# Altium footprint library Button_Switch_SMD.PcbLib: 169 footprints (part 7 of 12)
Each footprint in its own frame and in the unit in brackets; x right, y up, seen from the top. Pads: shape width x height; smd on the part's side, far side on the other; paste and mask are expansions set on the pad; w line width, h text height; cw(c..) or ccw(c..) is an arc to the next point about the centre after c.
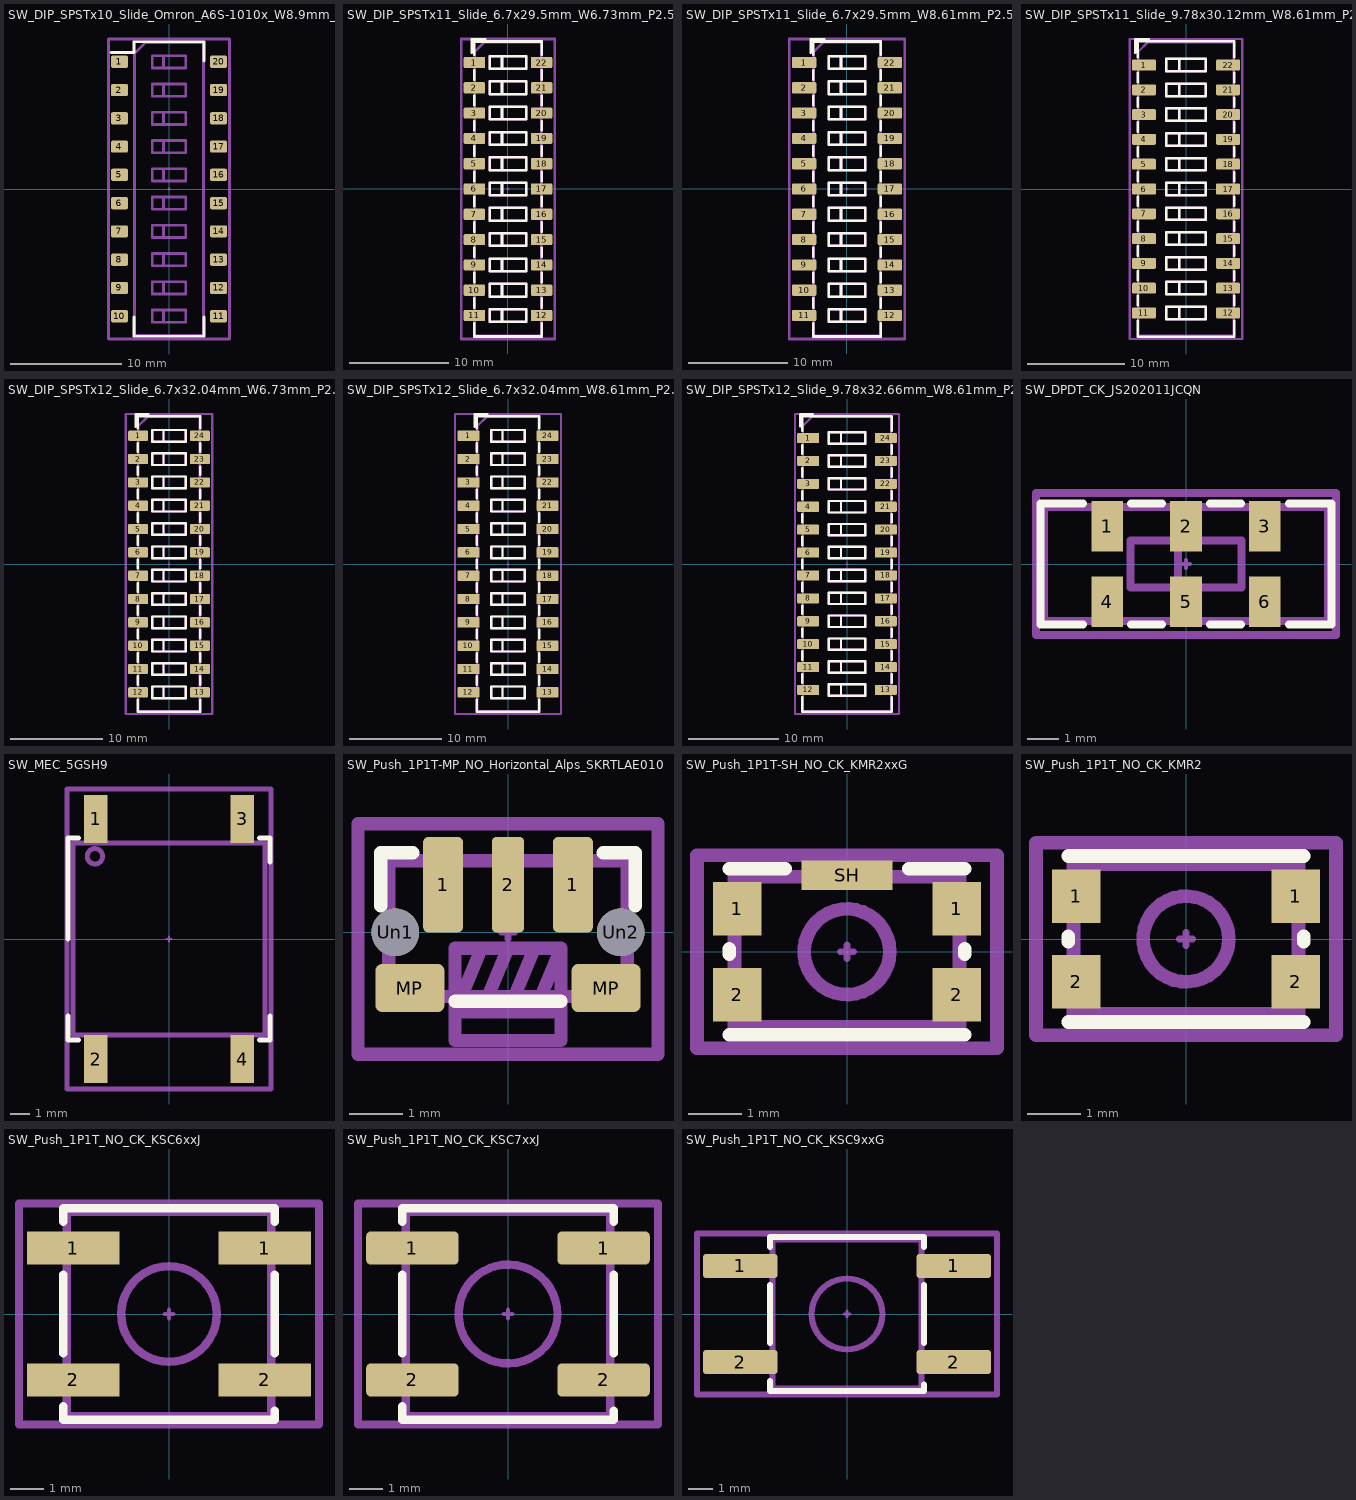
[diagram p6: the footprints below, top view; thin cyan lines are the x and y axes]

## SW_DIP_SPSTx10_Slide_Omron_A6S-1010x_W8.9mm_P2.54mm [mm] "SW_DIP_SPSTx10_Slide_Omron_A6S-1010x_W8.9mm_P2.54mm"
pads (20):
  rrect23% 1.5x1.1 smd: 1(-4.45,11.43) 2(-4.45,8.89) 3(-4.45,6.35) 4(-4.45,3.81) 5(-4.45,1.27) 6(-4.45,-1.27) 7(-4.45,-3.81) 8(-4.45,-6.35) 9(-4.45,-8.89) 10(-4.45,-11.43) 11(4.45,-11.43) 12(4.45,-8.89) 13(4.45,-6.35) 14(4.45,-3.81) 15(4.45,-1.27) 16(4.45,1.27) 17(4.45,3.81) 18(4.45,6.35) 19(4.45,8.89) 20(4.45,11.43)
F.SilkS:
  lines w0.254: -5.2,12.28 -3.16,12.28 -3.16,13.23 3.16,13.23 3.16,11.49 ; -3.16,-11.49 -3.16,-13.23 3.16,-13.23 3.16,-11.49
Top Component Center:
  lines w0.127: -0.127,0 0.127,0 ; 0,-0.127 0,0.127
Top Assembly:
  lines w0.254: -1.5,-11.98 -1.5,-10.88 ; -1.5,-11.98 -0.5,-11.98 ; -1.5,-11.98 -1.5,-10.88 ; -1.5,-11.98 1.5,-11.98 1.5,-10.88 -1.5,-10.88 ; -1.5,-10.88 -0.5,-10.88 ; -1.5,-9.44 -1.5,-8.34 ; -1.5,-9.44 -0.5,-9.44 ; -1.5,-9.44 -1.5,-8.34 ; -1.5,-9.44 1.5,-9.44 1.5,-8.34 -1.5,-8.34 ; -1.5,-8.34 -0.5,-8.34 ; -1.5,-6.9 -1.5,-5.8 ; -1.5,-6.9 -0.5,-6.9 ; -1.5,-6.9 -1.5,-5.8 ; -1.5,-6.9 1.5,-6.9 1.5,-5.8 -1.5,-5.8 ; -1.5,-5.8 -0.5,-5.8 ; -1.5,-4.36 -1.5,-3.26 ; -1.5,-4.36 -0.5,-4.36 ; -1.5,-4.36 -1.5,-3.26 ; -1.5,-4.36 1.5,-4.36 1.5,-3.26 -1.5,-3.26 ; -1.5,-3.26 -0.5,-3.26 ; -1.5,-1.82 -1.5,-0.72 ; -1.5,-1.82 -0.5,-1.82 ; -1.5,-1.82 -1.5,-0.72 ; -1.5,-1.82 1.5,-1.82 1.5,-0.72 -1.5,-0.72 ; -1.5,-0.72 -0.5,-0.72 ; -1.5,0.72 -1.5,1.82 ; -1.5,0.72 -0.5,0.72 ; -1.5,0.72 -1.5,1.82 ; -1.5,0.72 1.5,0.72 1.5,1.82 -1.5,1.82 ; -1.5,1.82 -0.5,1.82 ; -1.5,3.26 -1.5,4.36 ; -1.5,3.26 -0.5,3.26 ; -1.5,3.26 -1.5,4.36 ; -1.5,3.26 1.5,3.26 1.5,4.36 -1.5,4.36 ; -1.5,4.36 -0.5,4.36 ; -1.5,5.8 -1.5,6.9 ; -1.5,5.8 -0.5,5.8 ; -1.5,5.8 -1.5,6.9 ; -1.5,5.8 1.5,5.8 1.5,6.9 -1.5,6.9 ; -1.5,6.9 -0.5,6.9 ; -1.5,8.34 -1.5,9.44 ; -1.5,8.34 -0.5,8.34 ; -1.5,8.34 -1.5,9.44 ; -1.5,8.34 1.5,8.34 1.5,9.44 -1.5,9.44 ; -1.5,9.44 -0.5,9.44 ; -1.5,10.88 -1.5,11.98 ; -1.5,10.88 -0.5,10.88 ; -1.5,10.88 -1.5,11.98 ; -1.5,10.88 1.5,10.88 1.5,11.98 -1.5,11.98 ; -1.5,11.98 -0.5,11.98 ; -0.5,-11.98 -0.5,-10.88 ; -0.5,-11.98 -0.5,-10.88 ; -0.5,-9.44 -0.5,-8.34 ; -0.5,-9.44 -0.5,-8.34 ; -0.5,-6.9 -0.5,-5.8 ; -0.5,-6.9 -0.5,-5.8 ; -0.5,-4.36 -0.5,-3.26 ; -0.5,-4.36 -0.5,-3.26 ; -0.5,-1.82 -0.5,-0.72 ; -0.5,-1.82 -0.5,-0.72 ; -0.5,0.72 -0.5,1.82 ; -0.5,0.72 -0.5,1.82 ; -0.5,3.26 -0.5,4.36 ; -0.5,3.26 -0.5,4.36 ; -0.5,5.8 -0.5,6.9 ; -0.5,5.8 -0.5,6.9 ; -0.5,8.34 -0.5,9.44 ; -0.5,8.34 -0.5,9.44 ; -0.5,10.88 -0.5,11.98 ; -0.5,10.88 -0.5,11.98 ; -3.1,-13.17 -3.1,12.17 -2.1,13.17 3.1,13.17 3.1,-13.17 -3.1,-13.17
  text "on" at -0.59,12.188 h0.8
Top Courtyard:
  lines w0.254: -5.45,-13.48 -5.45,13.48 5.45,13.48 5.45,-13.48 -5.45,-13.48
Top Designator:
  text ".Designator" at -3.432,-0.345 h1.52
3D body "SW_DIP_SPSTx10_Slide_Omron_A6S-1010x_W8.9mm_P2.54mm.step": height 3.1, standoff 0.03, extent -4.9,-13.17 4.9,13.17

## SW_DIP_SPSTx11_Slide_6.7x29.5mm_W6.73mm_P2.54mm_LowProfile_JPin [mm] "SW_DIP_SPSTx11_Slide_6.7x29.5mm_W6.73mm_P2.54mm_LowProfile_JPin"
pads (22):
  rrect22% 2.16x1.12 smd: 1(-3.365,12.7) 2(-3.365,10.16) 3(-3.365,7.62) 4(-3.365,5.08) 5(-3.365,2.54) 6(-3.365,0) 7(-3.365,-2.54) 8(-3.365,-5.08) 9(-3.365,-7.62) 10(-3.365,-10.16) 11(-3.365,-12.7) 12(3.365,-12.7) 13(3.365,-10.16) 14(3.365,-7.62) 15(3.365,-5.08) 16(3.365,-2.54) 17(3.365,0) 18(3.365,2.54) 19(3.365,5.08) 20(3.365,7.62) 21(3.365,10.16) 22(3.365,12.7)
F.SilkS:
  lines w0.254: -3.65,13.667 -3.65,15.05 -2.267,15.05 ; -3.41,-13.5 -3.41,-14.81 3.41,-14.81 3.41,-13.5 ; -3.41,-11.9 -3.41,-10.96 ; -3.41,-9.36 -3.41,-8.42 ; -3.41,-6.82 -3.41,-5.88 ; -3.41,-4.28 -3.41,-3.34 ; -3.41,-1.74 -3.41,-0.8 ; -3.41,0.8 -3.41,1.74 ; -3.41,3.34 -3.41,4.28 ; -3.41,5.88 -3.41,6.82 ; -3.41,8.42 -3.41,9.36 ; -3.41,10.96 -3.41,11.9 ; -3.41,13.5 -3.41,14.81 3.41,14.81 3.41,13.5 ; 3.41,-11.9 3.41,-10.96 ; 3.41,-9.36 3.41,-8.42 ; 3.41,-6.82 3.41,-5.88 ; 3.41,-4.28 3.41,-3.34 ; 3.41,-1.74 3.41,-0.8 ; 3.41,0.8 3.41,1.74 ; 3.41,3.34 3.41,4.28 ; 3.41,5.88 3.41,6.82 ; 3.41,8.42 3.41,9.36 ; 3.41,10.96 3.41,11.9 ; -1.81,-13.335 -1.81,-12.065 ; -1.81,-13.335 -0.603,-13.335 ; -1.81,-13.335 -1.81,-12.065 ; -1.81,-13.335 1.81,-13.335 1.81,-12.065 -1.81,-12.065 ; -1.81,-12.065 -0.603,-12.065 ; -1.81,-10.795 -1.81,-9.525 ; -1.81,-10.795 -0.603,-10.795 ; -1.81,-10.795 -1.81,-9.525 ; -1.81,-10.795 1.81,-10.795 1.81,-9.525 -1.81,-9.525 ; -1.81,-9.525 -0.603,-9.525 ; -1.81,-8.255 -1.81,-6.985 ; -1.81,-8.255 -0.603,-8.255 ; -1.81,-8.255 -1.81,-6.985 ; -1.81,-8.255 1.81,-8.255 1.81,-6.985 -1.81,-6.985 ; -1.81,-6.985 -0.603,-6.985 ; -1.81,-5.715 -1.81,-4.445 ; -1.81,-5.715 -0.603,-5.715 ; -1.81,-5.715 -1.81,-4.445 ; -1.81,-5.715 1.81,-5.715 1.81,-4.445 -1.81,-4.445 ; -1.81,-4.445 -0.603,-4.445 ; -1.81,-3.175 -1.81,-1.905 ; -1.81,-3.175 -0.603,-3.175 ; -1.81,-3.175 -1.81,-1.905 ; -1.81,-3.175 1.81,-3.175 1.81,-1.905 -1.81,-1.905 ; -1.81,-1.905 -0.603,-1.905 ; -1.81,-0.635 -1.81,0.635 ; -1.81,-0.635 -0.603,-0.635 ; -1.81,-0.635 -1.81,0.635 ; -1.81,-0.635 1.81,-0.635 1.81,0.635 -1.81,0.635 ; -1.81,0.635 -0.603,0.635 ; -1.81,1.905 -1.81,3.175 ; -1.81,1.905 -0.603,1.905 ; -1.81,1.905 -1.81,3.175 ; -1.81,1.905 1.81,1.905 1.81,3.175 -1.81,3.175 ; -1.81,3.175 -0.603,3.175 ; -1.81,4.445 -1.81,5.715 ; -1.81,4.445 -0.603,4.445 ; -1.81,4.445 -1.81,5.715 ; -1.81,4.445 1.81,4.445 1.81,5.715 -1.81,5.715 ; -1.81,5.715 -0.603,5.715 ; -1.81,6.985 -1.81,8.255 ; -1.81,6.985 -0.603,6.985 ; -1.81,6.985 -1.81,8.255 ; -1.81,6.985 1.81,6.985 1.81,8.255 -1.81,8.255 ; -1.81,8.255 -0.603,8.255 ; -1.81,9.525 -1.81,10.795 ; -1.81,9.525 -0.603,9.525 ; -1.81,9.525 -1.81,10.795 ; -1.81,9.525 1.81,9.525 1.81,10.795 -1.81,10.795 ; -1.81,10.795 -0.603,10.795 ; -1.81,12.065 -1.81,13.335 ; -1.81,12.065 -0.603,12.065 ; -1.81,12.065 -1.81,13.335 ; -1.81,12.065 1.81,12.065 1.81,13.335 -1.81,13.335 ; -1.81,13.335 -0.603,13.335 ; -0.603,-13.335 -0.603,-12.065 ; -0.603,-13.335 -0.603,-12.065 ; -0.603,-10.795 -0.603,-9.525 ; -0.603,-10.795 -0.603,-9.525 ; -0.603,-8.255 -0.603,-6.985 ; -0.603,-8.255 -0.603,-6.985 ; -0.603,-5.715 -0.603,-4.445 ; -0.603,-5.715 -0.603,-4.445 ; -0.603,-3.175 -0.603,-1.905 ; -0.603,-3.175 -0.603,-1.905 ; -0.603,-0.635 -0.603,0.635 ; -0.603,-0.635 -0.603,0.635 ; -0.603,1.905 -0.603,3.175 ; -0.603,1.905 -0.603,3.175 ; -0.603,4.445 -0.603,5.715 ; -0.603,4.445 -0.603,5.715 ; -0.603,6.985 -0.603,8.255 ; -0.603,6.985 -0.603,8.255 ; -0.603,9.525 -0.603,10.795 ; -0.603,9.525 -0.603,10.795 ; -0.603,12.065 -0.603,13.335 ; -0.603,12.065 -0.603,13.335
Top Component Center:
  lines w0.127: -0.127,0 0.127,0 ; 0,-0.127 0,0.127
Top Assembly:
  lines w0.254: -1.81,-13.335 -1.81,-12.065 ; -1.81,-13.335 -0.603,-13.335 ; -1.81,-13.335 -1.81,-12.065 ; -1.81,-13.335 1.81,-13.335 1.81,-12.065 -1.81,-12.065 ; -1.81,-12.065 -0.603,-12.065 ; -1.81,-10.795 -1.81,-9.525 ; -1.81,-10.795 -0.603,-10.795 ; -1.81,-10.795 -1.81,-9.525 ; -1.81,-10.795 1.81,-10.795 1.81,-9.525 -1.81,-9.525 ; -1.81,-9.525 -0.603,-9.525 ; -1.81,-8.255 -1.81,-6.985 ; -1.81,-8.255 -0.603,-8.255 ; -1.81,-8.255 -1.81,-6.985 ; -1.81,-8.255 1.81,-8.255 1.81,-6.985 -1.81,-6.985 ; -1.81,-6.985 -0.603,-6.985 ; -1.81,-5.715 -1.81,-4.445 ; -1.81,-5.715 -0.603,-5.715 ; -1.81,-5.715 -1.81,-4.445 ; -1.81,-5.715 1.81,-5.715 1.81,-4.445 -1.81,-4.445 ; -1.81,-4.445 -0.603,-4.445 ; -1.81,-3.175 -1.81,-1.905 ; -1.81,-3.175 -0.603,-3.175 ; -1.81,-3.175 -1.81,-1.905 ; -1.81,-3.175 1.81,-3.175 1.81,-1.905 -1.81,-1.905 ; -1.81,-1.905 -0.603,-1.905 ; -1.81,-0.635 -1.81,0.635 ; -1.81,-0.635 -0.603,-0.635 ; -1.81,-0.635 -1.81,0.635 ; -1.81,-0.635 1.81,-0.635 1.81,0.635 -1.81,0.635 ; -1.81,0.635 -0.603,0.635 ; -1.81,1.905 -1.81,3.175 ; -1.81,1.905 -0.603,1.905 ; -1.81,1.905 -1.81,3.175 ; -1.81,1.905 1.81,1.905 1.81,3.175 -1.81,3.175 ; -1.81,3.175 -0.603,3.175 ; -1.81,4.445 -1.81,5.715 ; -1.81,4.445 -0.603,4.445 ; -1.81,4.445 -1.81,5.715 ; -1.81,4.445 1.81,4.445 1.81,5.715 -1.81,5.715 ; -1.81,5.715 -0.603,5.715 ; -1.81,6.985 -1.81,8.255 ; -1.81,6.985 -0.603,6.985 ; -1.81,6.985 -1.81,8.255 ; -1.81,6.985 1.81,6.985 1.81,8.255 -1.81,8.255 ; -1.81,8.255 -0.603,8.255 ; -1.81,9.525 -1.81,10.795 ; -1.81,9.525 -0.603,9.525 ; -1.81,9.525 -1.81,10.795 ; -1.81,9.525 1.81,9.525 1.81,10.795 -1.81,10.795 ; -1.81,10.795 -0.603,10.795 ; -1.81,12.065 -1.81,13.335 ; -1.81,12.065 -0.603,12.065 ; -1.81,12.065 -1.81,13.335 ; -1.81,12.065 1.81,12.065 1.81,13.335 -1.81,13.335 ; -1.81,13.335 -0.603,13.335 ; -0.603,-13.335 -0.603,-12.065 ; -0.603,-13.335 -0.603,-12.065 ; -0.603,-10.795 -0.603,-9.525 ; -0.603,-10.795 -0.603,-9.525 ; -0.603,-8.255 -0.603,-6.985 ; -0.603,-8.255 -0.603,-6.985 ; -0.603,-5.715 -0.603,-4.445 ; -0.603,-5.715 -0.603,-4.445 ; -0.603,-3.175 -0.603,-1.905 ; -0.603,-3.175 -0.603,-1.905 ; -0.603,-0.635 -0.603,0.635 ; -0.603,-0.635 -0.603,0.635 ; -0.603,1.905 -0.603,3.175 ; -0.603,1.905 -0.603,3.175 ; -0.603,4.445 -0.603,5.715 ; -0.603,4.445 -0.603,5.715 ; -0.603,6.985 -0.603,8.255 ; -0.603,6.985 -0.603,8.255 ; -0.603,9.525 -0.603,10.795 ; -0.603,9.525 -0.603,10.795 ; -0.603,12.065 -0.603,13.335 ; -0.603,12.065 -0.603,13.335 ; -3.35,-14.75 -3.35,13.75 -2.35,14.75 3.35,14.75 3.35,-14.75 -3.35,-14.75
  text "on" at 0.233,13.656 h0.8
Top Courtyard:
  lines w0.254: -4.7,-15.06 -4.7,15.06 4.7,15.06 4.7,-15.06 -4.7,-15.06
Top Designator:
  text ".Designator" at -3.432,0.925 h1.52
3D body "SW_DIP_SPSTx11_Slide_6.7x29.5mm_W6.73mm_P2.54mm_LowProfile_JPin.step": height 3.2, standoff -0.1, extent -3.45,-14.75 3.45,14.75

## SW_DIP_SPSTx11_Slide_6.7x29.5mm_W8.61mm_P2.54mm_LowProfile [mm] "SW_DIP_SPSTx11_Slide_6.7x29.5mm_W8.61mm_P2.54mm_LowProfile"
pads (22):
  rrect22% 2.44x1.12 smd: 1(-4.305,12.7) 2(-4.305,10.16) 3(-4.305,7.62) 4(-4.305,5.08) 5(-4.305,2.54) 6(-4.305,0) 7(-4.305,-2.54) 8(-4.305,-5.08) 9(-4.305,-7.62) 10(-4.305,-10.16) 11(-4.305,-12.7) 12(4.305,-12.7) 13(4.305,-10.16) 14(4.305,-7.62) 15(4.305,-5.08) 16(4.305,-2.54) 17(4.305,0) 18(4.305,2.54) 19(4.305,5.08) 20(4.305,7.62) 21(4.305,10.16) 22(4.305,12.7)
F.SilkS:
  lines w0.254: -3.65,13.667 -3.65,15.05 -2.267,15.05 ; -3.41,-13.5 -3.41,-14.81 3.41,-14.81 3.41,-13.5 ; -3.41,-11.9 -3.41,-10.96 ; -3.41,-9.36 -3.41,-8.42 ; -3.41,-6.82 -3.41,-5.88 ; -3.41,-4.28 -3.41,-3.34 ; -3.41,-1.74 -3.41,-0.8 ; -3.41,0.8 -3.41,1.74 ; -3.41,3.34 -3.41,4.28 ; -3.41,5.88 -3.41,6.82 ; -3.41,8.42 -3.41,9.36 ; -3.41,10.96 -3.41,11.9 ; -3.41,13.5 -3.41,14.81 3.41,14.81 3.41,13.5 ; 3.41,-11.9 3.41,-10.96 ; 3.41,-9.36 3.41,-8.42 ; 3.41,-6.82 3.41,-5.88 ; 3.41,-4.28 3.41,-3.34 ; 3.41,-1.74 3.41,-0.8 ; 3.41,0.8 3.41,1.74 ; 3.41,3.34 3.41,4.28 ; 3.41,5.88 3.41,6.82 ; 3.41,8.42 3.41,9.36 ; 3.41,10.96 3.41,11.9 ; -1.81,-13.335 -1.81,-12.065 ; -1.81,-13.335 -0.603,-13.335 ; -1.81,-13.335 -1.81,-12.065 ; -1.81,-13.335 1.81,-13.335 1.81,-12.065 -1.81,-12.065 ; -1.81,-12.065 -0.603,-12.065 ; -1.81,-10.795 -1.81,-9.525 ; -1.81,-10.795 -0.603,-10.795 ; -1.81,-10.795 -1.81,-9.525 ; -1.81,-10.795 1.81,-10.795 1.81,-9.525 -1.81,-9.525 ; -1.81,-9.525 -0.603,-9.525 ; -1.81,-8.255 -1.81,-6.985 ; -1.81,-8.255 -0.603,-8.255 ; -1.81,-8.255 -1.81,-6.985 ; -1.81,-8.255 1.81,-8.255 1.81,-6.985 -1.81,-6.985 ; -1.81,-6.985 -0.603,-6.985 ; -1.81,-5.715 -1.81,-4.445 ; -1.81,-5.715 -0.603,-5.715 ; -1.81,-5.715 -1.81,-4.445 ; -1.81,-5.715 1.81,-5.715 1.81,-4.445 -1.81,-4.445 ; -1.81,-4.445 -0.603,-4.445 ; -1.81,-3.175 -1.81,-1.905 ; -1.81,-3.175 -0.603,-3.175 ; -1.81,-3.175 -1.81,-1.905 ; -1.81,-3.175 1.81,-3.175 1.81,-1.905 -1.81,-1.905 ; -1.81,-1.905 -0.603,-1.905 ; -1.81,-0.635 -1.81,0.635 ; -1.81,-0.635 -0.603,-0.635 ; -1.81,-0.635 -1.81,0.635 ; -1.81,-0.635 1.81,-0.635 1.81,0.635 -1.81,0.635 ; -1.81,0.635 -0.603,0.635 ; -1.81,1.905 -1.81,3.175 ; -1.81,1.905 -0.603,1.905 ; -1.81,1.905 -1.81,3.175 ; -1.81,1.905 1.81,1.905 1.81,3.175 -1.81,3.175 ; -1.81,3.175 -0.603,3.175 ; -1.81,4.445 -1.81,5.715 ; -1.81,4.445 -0.603,4.445 ; -1.81,4.445 -1.81,5.715 ; -1.81,4.445 1.81,4.445 1.81,5.715 -1.81,5.715 ; -1.81,5.715 -0.603,5.715 ; -1.81,6.985 -1.81,8.255 ; -1.81,6.985 -0.603,6.985 ; -1.81,6.985 -1.81,8.255 ; -1.81,6.985 1.81,6.985 1.81,8.255 -1.81,8.255 ; -1.81,8.255 -0.603,8.255 ; -1.81,9.525 -1.81,10.795 ; -1.81,9.525 -0.603,9.525 ; -1.81,9.525 -1.81,10.795 ; -1.81,9.525 1.81,9.525 1.81,10.795 -1.81,10.795 ; -1.81,10.795 -0.603,10.795 ; -1.81,12.065 -1.81,13.335 ; -1.81,12.065 -0.603,12.065 ; -1.81,12.065 -1.81,13.335 ; -1.81,12.065 1.81,12.065 1.81,13.335 -1.81,13.335 ; -1.81,13.335 -0.603,13.335 ; -0.603,-13.335 -0.603,-12.065 ; -0.603,-13.335 -0.603,-12.065 ; -0.603,-10.795 -0.603,-9.525 ; -0.603,-10.795 -0.603,-9.525 ; -0.603,-8.255 -0.603,-6.985 ; -0.603,-8.255 -0.603,-6.985 ; -0.603,-5.715 -0.603,-4.445 ; -0.603,-5.715 -0.603,-4.445 ; -0.603,-3.175 -0.603,-1.905 ; -0.603,-3.175 -0.603,-1.905 ; -0.603,-0.635 -0.603,0.635 ; -0.603,-0.635 -0.603,0.635 ; -0.603,1.905 -0.603,3.175 ; -0.603,1.905 -0.603,3.175 ; -0.603,4.445 -0.603,5.715 ; -0.603,4.445 -0.603,5.715 ; -0.603,6.985 -0.603,8.255 ; -0.603,6.985 -0.603,8.255 ; -0.603,9.525 -0.603,10.795 ; -0.603,9.525 -0.603,10.795 ; -0.603,12.065 -0.603,13.335 ; -0.603,12.065 -0.603,13.335
Top Component Center:
  lines w0.127: -0.127,0 0.127,0 ; 0,-0.127 0,0.127
Top Assembly:
  lines w0.254: -1.81,-13.335 -1.81,-12.065 ; -1.81,-13.335 -0.603,-13.335 ; -1.81,-13.335 -1.81,-12.065 ; -1.81,-13.335 1.81,-13.335 1.81,-12.065 -1.81,-12.065 ; -1.81,-12.065 -0.603,-12.065 ; -1.81,-10.795 -1.81,-9.525 ; -1.81,-10.795 -0.603,-10.795 ; -1.81,-10.795 -1.81,-9.525 ; -1.81,-10.795 1.81,-10.795 1.81,-9.525 -1.81,-9.525 ; -1.81,-9.525 -0.603,-9.525 ; -1.81,-8.255 -1.81,-6.985 ; -1.81,-8.255 -0.603,-8.255 ; -1.81,-8.255 -1.81,-6.985 ; -1.81,-8.255 1.81,-8.255 1.81,-6.985 -1.81,-6.985 ; -1.81,-6.985 -0.603,-6.985 ; -1.81,-5.715 -1.81,-4.445 ; -1.81,-5.715 -0.603,-5.715 ; -1.81,-5.715 -1.81,-4.445 ; -1.81,-5.715 1.81,-5.715 1.81,-4.445 -1.81,-4.445 ; -1.81,-4.445 -0.603,-4.445 ; -1.81,-3.175 -1.81,-1.905 ; -1.81,-3.175 -0.603,-3.175 ; -1.81,-3.175 -1.81,-1.905 ; -1.81,-3.175 1.81,-3.175 1.81,-1.905 -1.81,-1.905 ; -1.81,-1.905 -0.603,-1.905 ; -1.81,-0.635 -1.81,0.635 ; -1.81,-0.635 -0.603,-0.635 ; -1.81,-0.635 -1.81,0.635 ; -1.81,-0.635 1.81,-0.635 1.81,0.635 -1.81,0.635 ; -1.81,0.635 -0.603,0.635 ; -1.81,1.905 -1.81,3.175 ; -1.81,1.905 -0.603,1.905 ; -1.81,1.905 -1.81,3.175 ; -1.81,1.905 1.81,1.905 1.81,3.175 -1.81,3.175 ; -1.81,3.175 -0.603,3.175 ; -1.81,4.445 -1.81,5.715 ; -1.81,4.445 -0.603,4.445 ; -1.81,4.445 -1.81,5.715 ; -1.81,4.445 1.81,4.445 1.81,5.715 -1.81,5.715 ; -1.81,5.715 -0.603,5.715 ; -1.81,6.985 -1.81,8.255 ; -1.81,6.985 -0.603,6.985 ; -1.81,6.985 -1.81,8.255 ; -1.81,6.985 1.81,6.985 1.81,8.255 -1.81,8.255 ; -1.81,8.255 -0.603,8.255 ; -1.81,9.525 -1.81,10.795 ; -1.81,9.525 -0.603,9.525 ; -1.81,9.525 -1.81,10.795 ; -1.81,9.525 1.81,9.525 1.81,10.795 -1.81,10.795 ; -1.81,10.795 -0.603,10.795 ; -1.81,12.065 -1.81,13.335 ; -1.81,12.065 -0.603,12.065 ; -1.81,12.065 -1.81,13.335 ; -1.81,12.065 1.81,12.065 1.81,13.335 -1.81,13.335 ; -1.81,13.335 -0.603,13.335 ; -0.603,-13.335 -0.603,-12.065 ; -0.603,-13.335 -0.603,-12.065 ; -0.603,-10.795 -0.603,-9.525 ; -0.603,-10.795 -0.603,-9.525 ; -0.603,-8.255 -0.603,-6.985 ; -0.603,-8.255 -0.603,-6.985 ; -0.603,-5.715 -0.603,-4.445 ; -0.603,-5.715 -0.603,-4.445 ; -0.603,-3.175 -0.603,-1.905 ; -0.603,-3.175 -0.603,-1.905 ; -0.603,-0.635 -0.603,0.635 ; -0.603,-0.635 -0.603,0.635 ; -0.603,1.905 -0.603,3.175 ; -0.603,1.905 -0.603,3.175 ; -0.603,4.445 -0.603,5.715 ; -0.603,4.445 -0.603,5.715 ; -0.603,6.985 -0.603,8.255 ; -0.603,6.985 -0.603,8.255 ; -0.603,9.525 -0.603,10.795 ; -0.603,9.525 -0.603,10.795 ; -0.603,12.065 -0.603,13.335 ; -0.603,12.065 -0.603,13.335 ; -3.35,-14.75 -3.35,13.75 -2.35,14.75 3.35,14.75 3.35,-14.75 -3.35,-14.75
  text "on" at -0.237,13.656 h0.8
Top Courtyard:
  lines w0.254: -5.78,-15.06 -5.78,15.06 5.78,15.06 5.78,-15.06 -5.78,-15.06
Top Designator:
  text ".Designator" at -3.432,0.925 h1.52
3D body "SW_DIP_SPSTx11_Slide_6.7x29.5mm_W8.61mm_P2.54mm_LowProfile.step": height 2.7, standoff 0, extent -4.305,-14.75 4.305,14.75

## SW_DIP_SPSTx11_Slide_9.78x30.12mm_W8.61mm_P2.54mm [mm] "SW_DIP_SPSTx11_Slide_9.78x30.12mm_W8.61mm_P2.54mm"
pads (22):
  rrect22% 2.44x1.12 smd: 1(-4.305,12.7) 2(-4.305,10.16) 3(-4.305,7.62) 4(-4.305,5.08) 5(-4.305,2.54) 6(-4.305,0) 7(-4.305,-2.54) 8(-4.305,-5.08) 9(-4.305,-7.62) 10(-4.305,-10.16) 11(-4.305,-12.7) 12(4.305,-12.7) 13(4.305,-10.16) 14(4.305,-7.62) 15(4.305,-5.08) 16(4.305,-2.54) 17(4.305,0) 18(4.305,2.54) 19(4.305,5.08) 20(4.305,7.62) 21(4.305,10.16) 22(4.305,12.7)
F.SilkS:
  lines w0.254: -5.19,13.977 -5.19,15.36 -3.807,15.36 ; -4.95,-13.5 -4.95,-15.12 4.95,-15.12 4.95,-13.5 ; -4.95,-11.9 -4.95,-10.96 ; -4.95,-9.36 -4.95,-8.42 ; -4.95,-6.82 -4.95,-5.88 ; -4.95,-4.28 -4.95,-3.34 ; -4.95,-1.74 -4.95,-0.8 ; -4.95,0.8 -4.95,1.74 ; -4.95,3.34 -4.95,4.28 ; -4.95,5.88 -4.95,6.82 ; -4.95,8.42 -4.95,9.36 ; -4.95,10.96 -4.95,11.9 ; -4.95,13.5 -4.95,15.12 4.95,15.12 4.95,13.5 ; 4.95,-11.9 4.95,-10.96 ; 4.95,-9.36 4.95,-8.42 ; 4.95,-6.82 4.95,-5.88 ; 4.95,-4.28 4.95,-3.34 ; 4.95,-1.74 4.95,-0.8 ; 4.95,0.8 4.95,1.74 ; 4.95,3.34 4.95,4.28 ; 4.95,5.88 4.95,6.82 ; 4.95,8.42 4.95,9.36 ; 4.95,10.96 4.95,11.9 ; -2.03,-13.335 2.03,-13.335 2.03,-12.065 -2.03,-12.065 ; -2.03,-13.335 -2.03,-12.065 ; -2.03,-13.335 -0.677,-13.335 ; -2.03,-13.335 -2.03,-12.065 ; -2.03,-12.065 -0.677,-12.065 ; -2.03,-10.795 2.03,-10.795 2.03,-9.525 -2.03,-9.525 ; -2.03,-10.795 -2.03,-9.525 ; -2.03,-10.795 -0.677,-10.795 ; -2.03,-10.795 -2.03,-9.525 ; -2.03,-9.525 -0.677,-9.525 ; -2.03,-8.255 2.03,-8.255 2.03,-6.985 -2.03,-6.985 ; -2.03,-8.255 -2.03,-6.985 ; -2.03,-8.255 -0.677,-8.255 ; -2.03,-8.255 -2.03,-6.985 ; -2.03,-6.985 -0.677,-6.985 ; -2.03,-5.715 2.03,-5.715 2.03,-4.445 -2.03,-4.445 ; -2.03,-5.715 -2.03,-4.445 ; -2.03,-5.715 -0.677,-5.715 ; -2.03,-5.715 -2.03,-4.445 ; -2.03,-4.445 -0.677,-4.445 ; -2.03,-3.175 2.03,-3.175 2.03,-1.905 -2.03,-1.905 ; -2.03,-3.175 -2.03,-1.905 ; -2.03,-3.175 -0.677,-3.175 ; -2.03,-3.175 -2.03,-1.905 ; -2.03,-1.905 -0.677,-1.905 ; -2.03,-0.635 2.03,-0.635 2.03,0.635 -2.03,0.635 ; -2.03,-0.635 -2.03,0.635 ; -2.03,-0.635 -0.677,-0.635 ; -2.03,-0.635 -2.03,0.635 ; -2.03,0.635 -0.677,0.635 ; -2.03,1.905 2.03,1.905 2.03,3.175 -2.03,3.175 ; -2.03,1.905 -2.03,3.175 ; -2.03,1.905 -0.677,1.905 ; -2.03,1.905 -2.03,3.175 ; -2.03,3.175 -0.677,3.175 ; -2.03,4.445 2.03,4.445 2.03,5.715 -2.03,5.715 ; -2.03,4.445 -2.03,5.715 ; -2.03,4.445 -0.677,4.445 ; -2.03,4.445 -2.03,5.715 ; -2.03,5.715 -0.677,5.715 ; -2.03,6.985 2.03,6.985 2.03,8.255 -2.03,8.255 ; -2.03,6.985 -2.03,8.255 ; -2.03,6.985 -0.677,6.985 ; -2.03,6.985 -2.03,8.255 ; -2.03,8.255 -0.677,8.255 ; -2.03,9.525 2.03,9.525 2.03,10.795 -2.03,10.795 ; -2.03,9.525 -2.03,10.795 ; -2.03,9.525 -0.677,9.525 ; -2.03,9.525 -2.03,10.795 ; -2.03,10.795 -0.677,10.795 ; -2.03,12.065 2.03,12.065 2.03,13.335 -2.03,13.335 ; -2.03,12.065 -2.03,13.335 ; -2.03,12.065 -0.677,12.065 ; -2.03,12.065 -2.03,13.335 ; -2.03,13.335 -0.677,13.335 ; -0.677,-13.335 -0.677,-12.065 ; -0.677,-13.335 -0.677,-12.065 ; -0.677,-10.795 -0.677,-9.525 ; -0.677,-10.795 -0.677,-9.525 ; -0.677,-8.255 -0.677,-6.985 ; -0.677,-8.255 -0.677,-6.985 ; -0.677,-5.715 -0.677,-4.445 ; -0.677,-5.715 -0.677,-4.445 ; -0.677,-3.175 -0.677,-1.905 ; -0.677,-3.175 -0.677,-1.905 ; -0.677,-0.635 -0.677,0.635 ; -0.677,-0.635 -0.677,0.635 ; -0.677,1.905 -0.677,3.175 ; -0.677,1.905 -0.677,3.175 ; -0.677,4.445 -0.677,5.715 ; -0.677,4.445 -0.677,5.715 ; -0.677,6.985 -0.677,8.255 ; -0.677,6.985 -0.677,8.255 ; -0.677,9.525 -0.677,10.795 ; -0.677,9.525 -0.677,10.795 ; -0.677,12.065 -0.677,13.335 ; -0.677,12.065 -0.677,13.335
Top Component Center:
  lines w0.127: -0.127,0 0.127,0 ; 0,-0.127 0,0.127
Top Assembly:
  lines w0.254: -2.03,-13.335 2.03,-13.335 2.03,-12.065 -2.03,-12.065 ; -2.03,-13.335 -2.03,-12.065 ; -2.03,-13.335 -0.677,-13.335 ; -2.03,-13.335 -2.03,-12.065 ; -2.03,-12.065 -0.677,-12.065 ; -2.03,-10.795 2.03,-10.795 2.03,-9.525 -2.03,-9.525 ; -2.03,-10.795 -2.03,-9.525 ; -2.03,-10.795 -0.677,-10.795 ; -2.03,-10.795 -2.03,-9.525 ; -2.03,-9.525 -0.677,-9.525 ; -2.03,-8.255 2.03,-8.255 2.03,-6.985 -2.03,-6.985 ; -2.03,-8.255 -2.03,-6.985 ; -2.03,-8.255 -0.677,-8.255 ; -2.03,-8.255 -2.03,-6.985 ; -2.03,-6.985 -0.677,-6.985 ; -2.03,-5.715 2.03,-5.715 2.03,-4.445 -2.03,-4.445 ; -2.03,-5.715 -2.03,-4.445 ; -2.03,-5.715 -0.677,-5.715 ; -2.03,-5.715 -2.03,-4.445 ; -2.03,-4.445 -0.677,-4.445 ; -2.03,-3.175 2.03,-3.175 2.03,-1.905 -2.03,-1.905 ; -2.03,-3.175 -2.03,-1.905 ; -2.03,-3.175 -0.677,-3.175 ; -2.03,-3.175 -2.03,-1.905 ; -2.03,-1.905 -0.677,-1.905 ; -2.03,-0.635 2.03,-0.635 2.03,0.635 -2.03,0.635 ; -2.03,-0.635 -2.03,0.635 ; -2.03,-0.635 -0.677,-0.635 ; -2.03,-0.635 -2.03,0.635 ; -2.03,0.635 -0.677,0.635 ; -2.03,1.905 2.03,1.905 2.03,3.175 -2.03,3.175 ; -2.03,1.905 -2.03,3.175 ; -2.03,1.905 -0.677,1.905 ; -2.03,1.905 -2.03,3.175 ; -2.03,3.175 -0.677,3.175 ; -2.03,4.445 2.03,4.445 2.03,5.715 -2.03,5.715 ; -2.03,4.445 -2.03,5.715 ; -2.03,4.445 -0.677,4.445 ; -2.03,4.445 -2.03,5.715 ; -2.03,5.715 -0.677,5.715 ; -2.03,6.985 2.03,6.985 2.03,8.255 -2.03,8.255 ; -2.03,6.985 -2.03,8.255 ; -2.03,6.985 -0.677,6.985 ; -2.03,6.985 -2.03,8.255 ; -2.03,8.255 -0.677,8.255 ; -2.03,9.525 2.03,9.525 2.03,10.795 -2.03,10.795 ; -2.03,9.525 -2.03,10.795 ; -2.03,9.525 -0.677,9.525 ; -2.03,9.525 -2.03,10.795 ; -2.03,10.795 -0.677,10.795 ; -2.03,12.065 2.03,12.065 2.03,13.335 -2.03,13.335 ; -2.03,12.065 -2.03,13.335 ; -2.03,12.065 -0.677,12.065 ; -2.03,12.065 -2.03,13.335 ; -2.03,13.335 -0.677,13.335 ; -0.677,-13.335 -0.677,-12.065 ; -0.677,-13.335 -0.677,-12.065 ; -0.677,-10.795 -0.677,-9.525 ; -0.677,-10.795 -0.677,-9.525 ; -0.677,-8.255 -0.677,-6.985 ; -0.677,-8.255 -0.677,-6.985 ; -0.677,-5.715 -0.677,-4.445 ; -0.677,-5.715 -0.677,-4.445 ; -0.677,-3.175 -0.677,-1.905 ; -0.677,-3.175 -0.677,-1.905 ; -0.677,-0.635 -0.677,0.635 ; -0.677,-0.635 -0.677,0.635 ; -0.677,1.905 -0.677,3.175 ; -0.677,1.905 -0.677,3.175 ; -0.677,4.445 -0.677,5.715 ; -0.677,4.445 -0.677,5.715 ; -0.677,6.985 -0.677,8.255 ; -0.677,6.985 -0.677,8.255 ; -0.677,9.525 -0.677,10.795 ; -0.677,9.525 -0.677,10.795 ; -0.677,12.065 -0.677,13.335 ; -0.677,12.065 -0.677,13.335 ; -4.89,-15.06 4.89,-15.06 4.89,15.06 -3.89,15.06 -4.89,14.06 -4.89,-15.06
  text "on" at 0.643,13.811 h0.8
Top Courtyard:
  lines w0.254: -5.78,-15.37 5.78,-15.37 5.78,15.37 -5.78,15.37 -5.78,-15.37
Top Designator:
  text ".Designator" at -3.432,0.925 h1.52
3D body "SW_DIP_SPSTx11_Slide_9.78x30.12mm_W8.61mm_P2.54mm.step": height 8.6, standoff 0, extent -5.2,-15.06 5.2,15.06

## SW_DIP_SPSTx12_Slide_6.7x32.04mm_W6.73mm_P2.54mm_LowProfile_JPin [mm] "SW_DIP_SPSTx12_Slide_6.7x32.04mm_W6.73mm_P2.54mm_LowProfile_JPin"
pads (24):
  rrect22% 2.16x1.12 smd: 1(-3.365,13.97) 2(-3.365,11.43) 3(-3.365,8.89) 4(-3.365,6.35) 5(-3.365,3.81) 6(-3.365,1.27) 7(-3.365,-1.27) 8(-3.365,-3.81) 9(-3.365,-6.35) 10(-3.365,-8.89) 11(-3.365,-11.43) 12(-3.365,-13.97) 13(3.365,-13.97) 14(3.365,-11.43) 15(3.365,-8.89) 16(3.365,-6.35) 17(3.365,-3.81) 18(3.365,-1.27) 19(3.365,1.27) 20(3.365,3.81) 21(3.365,6.35) 22(3.365,8.89) 23(3.365,11.43) 24(3.365,13.97)
F.SilkS:
  lines w0.254: -3.65,14.937 -3.65,16.32 -2.267,16.32 ; -3.41,-14.77 -3.41,-16.08 3.41,-16.08 3.41,-14.77 ; -3.41,-13.17 -3.41,-12.23 ; -3.41,-10.63 -3.41,-9.69 ; -3.41,-8.09 -3.41,-7.15 ; -3.41,-5.55 -3.41,-4.61 ; -3.41,-3.01 -3.41,-2.07 ; -3.41,-0.47 -3.41,0.47 ; -3.41,2.07 -3.41,3.01 ; -3.41,4.61 -3.41,5.55 ; -3.41,7.15 -3.41,8.09 ; -3.41,9.69 -3.41,10.63 ; -3.41,12.23 -3.41,13.17 ; -3.41,14.77 -3.41,16.08 3.41,16.08 3.41,14.77 ; 3.41,-13.17 3.41,-12.23 ; 3.41,-10.63 3.41,-9.69 ; 3.41,-8.09 3.41,-7.15 ; 3.41,-5.55 3.41,-4.61 ; 3.41,-3.01 3.41,-2.07 ; 3.41,-0.47 3.41,0.47 ; 3.41,2.07 3.41,3.01 ; 3.41,4.61 3.41,5.55 ; 3.41,7.15 3.41,8.09 ; 3.41,9.69 3.41,10.63 ; 3.41,12.23 3.41,13.17 ; -1.81,-14.605 -1.81,-13.335 ; -1.81,-14.605 -0.603,-14.605 ; -1.81,-14.605 -1.81,-13.335 ; -1.81,-14.605 1.81,-14.605 1.81,-13.335 -1.81,-13.335 ; -1.81,-13.335 -0.603,-13.335 ; -1.81,-12.065 -1.81,-10.795 ; -1.81,-12.065 -0.603,-12.065 ; -1.81,-12.065 -1.81,-10.795 ; -1.81,-12.065 1.81,-12.065 1.81,-10.795 -1.81,-10.795 ; -1.81,-10.795 -0.603,-10.795 ; -1.81,-9.525 -1.81,-8.255 ; -1.81,-9.525 -0.603,-9.525 ; -1.81,-9.525 -1.81,-8.255 ; -1.81,-9.525 1.81,-9.525 1.81,-8.255 -1.81,-8.255 ; -1.81,-8.255 -0.603,-8.255 ; -1.81,-6.985 -1.81,-5.715 ; -1.81,-6.985 -0.603,-6.985 ; -1.81,-6.985 -1.81,-5.715 ; -1.81,-6.985 1.81,-6.985 1.81,-5.715 -1.81,-5.715 ; -1.81,-5.715 -0.603,-5.715 ; -1.81,-4.445 -1.81,-3.175 ; -1.81,-4.445 -0.603,-4.445 ; -1.81,-4.445 -1.81,-3.175 ; -1.81,-4.445 1.81,-4.445 1.81,-3.175 -1.81,-3.175 ; -1.81,-3.175 -0.603,-3.175 ; -1.81,-1.905 -1.81,-0.635 ; -1.81,-1.905 -0.603,-1.905 ; -1.81,-1.905 -1.81,-0.635 ; -1.81,-1.905 1.81,-1.905 1.81,-0.635 -1.81,-0.635 ; -1.81,-0.635 -0.603,-0.635 ; -1.81,0.635 -1.81,1.905 ; -1.81,0.635 -0.603,0.635 ; -1.81,0.635 -1.81,1.905 ; -1.81,0.635 1.81,0.635 1.81,1.905 -1.81,1.905 ; -1.81,1.905 -0.603,1.905 ; -1.81,3.175 -1.81,4.445 ; -1.81,3.175 -0.603,3.175 ; -1.81,3.175 -1.81,4.445 ; -1.81,3.175 1.81,3.175 1.81,4.445 -1.81,4.445 ; -1.81,4.445 -0.603,4.445 ; -1.81,5.715 -1.81,6.985 ; -1.81,5.715 -0.603,5.715 ; -1.81,5.715 -1.81,6.985 ; -1.81,5.715 1.81,5.715 1.81,6.985 -1.81,6.985 ; -1.81,6.985 -0.603,6.985 ; -1.81,8.255 -1.81,9.525 ; -1.81,8.255 -0.603,8.255 ; -1.81,8.255 -1.81,9.525 ; -1.81,8.255 1.81,8.255 1.81,9.525 -1.81,9.525 ; -1.81,9.525 -0.603,9.525 ; -1.81,10.795 -1.81,12.065 ; -1.81,10.795 -0.603,10.795 ; -1.81,10.795 -1.81,12.065 ; -1.81,10.795 1.81,10.795 1.81,12.065 -1.81,12.065 ; -1.81,12.065 -0.603,12.065 ; -1.81,13.335 -1.81,14.605 ; -1.81,13.335 -0.603,13.335 ; -1.81,13.335 -1.81,14.605 ; -1.81,13.335 1.81,13.335 1.81,14.605 -1.81,14.605 ; -1.81,14.605 -0.603,14.605 ; -0.603,-14.605 -0.603,-13.335 ; -0.603,-14.605 -0.603,-13.335 ; -0.603,-12.065 -0.603,-10.795 ; -0.603,-12.065 -0.603,-10.795 ; -0.603,-9.525 -0.603,-8.255 ; -0.603,-9.525 -0.603,-8.255 ; -0.603,-6.985 -0.603,-5.715 ; -0.603,-6.985 -0.603,-5.715 ; -0.603,-4.445 -0.603,-3.175 ; -0.603,-4.445 -0.603,-3.175 ; -0.603,-1.905 -0.603,-0.635 ; -0.603,-1.905 -0.603,-0.635 ; -0.603,0.635 -0.603,1.905 ; -0.603,0.635 -0.603,1.905 ; -0.603,3.175 -0.603,4.445 ; -0.603,3.175 -0.603,4.445 ; -0.603,5.715 -0.603,6.985 ; -0.603,5.715 -0.603,6.985 ; -0.603,8.255 -0.603,9.525 ; -0.603,8.255 -0.603,9.525 ; -0.603,10.795 -0.603,12.065 ; -0.603,10.795 -0.603,12.065 ; -0.603,13.335 -0.603,14.605 ; -0.603,13.335 -0.603,14.605
Top Component Center:
  lines w0.127: -0.127,0 0.127,0 ; 0,-0.127 0,0.127
Top Assembly:
  lines w0.254: -1.81,-14.605 -1.81,-13.335 ; -1.81,-14.605 -0.603,-14.605 ; -1.81,-14.605 -1.81,-13.335 ; -1.81,-14.605 1.81,-14.605 1.81,-13.335 -1.81,-13.335 ; -1.81,-13.335 -0.603,-13.335 ; -1.81,-12.065 -1.81,-10.795 ; -1.81,-12.065 -0.603,-12.065 ; -1.81,-12.065 -1.81,-10.795 ; -1.81,-12.065 1.81,-12.065 1.81,-10.795 -1.81,-10.795 ; -1.81,-10.795 -0.603,-10.795 ; -1.81,-9.525 -1.81,-8.255 ; -1.81,-9.525 -0.603,-9.525 ; -1.81,-9.525 -1.81,-8.255 ; -1.81,-9.525 1.81,-9.525 1.81,-8.255 -1.81,-8.255 ; -1.81,-8.255 -0.603,-8.255 ; -1.81,-6.985 -1.81,-5.715 ; -1.81,-6.985 -0.603,-6.985 ; -1.81,-6.985 -1.81,-5.715 ; -1.81,-6.985 1.81,-6.985 1.81,-5.715 -1.81,-5.715 ; -1.81,-5.715 -0.603,-5.715 ; -1.81,-4.445 -1.81,-3.175 ; -1.81,-4.445 -0.603,-4.445 ; -1.81,-4.445 -1.81,-3.175 ; -1.81,-4.445 1.81,-4.445 1.81,-3.175 -1.81,-3.175 ; -1.81,-3.175 -0.603,-3.175 ; -1.81,-1.905 -1.81,-0.635 ; -1.81,-1.905 -0.603,-1.905 ; -1.81,-1.905 -1.81,-0.635 ; -1.81,-1.905 1.81,-1.905 1.81,-0.635 -1.81,-0.635 ; -1.81,-0.635 -0.603,-0.635 ; -1.81,0.635 -1.81,1.905 ; -1.81,0.635 -0.603,0.635 ; -1.81,0.635 -1.81,1.905 ; -1.81,0.635 1.81,0.635 1.81,1.905 -1.81,1.905 ; -1.81,1.905 -0.603,1.905 ; -1.81,3.175 -1.81,4.445 ; -1.81,3.175 -0.603,3.175 ; -1.81,3.175 -1.81,4.445 ; -1.81,3.175 1.81,3.175 1.81,4.445 -1.81,4.445 ; -1.81,4.445 -0.603,4.445 ; -1.81,5.715 -1.81,6.985 ; -1.81,5.715 -0.603,5.715 ; -1.81,5.715 -1.81,6.985 ; -1.81,5.715 1.81,5.715 1.81,6.985 -1.81,6.985 ; -1.81,6.985 -0.603,6.985 ; -1.81,8.255 -1.81,9.525 ; -1.81,8.255 -0.603,8.255 ; -1.81,8.255 -1.81,9.525 ; -1.81,8.255 1.81,8.255 1.81,9.525 -1.81,9.525 ; -1.81,9.525 -0.603,9.525 ; -1.81,10.795 -1.81,12.065 ; -1.81,10.795 -0.603,10.795 ; -1.81,10.795 -1.81,12.065 ; -1.81,10.795 1.81,10.795 1.81,12.065 -1.81,12.065 ; -1.81,12.065 -0.603,12.065 ; -1.81,13.335 -1.81,14.605 ; -1.81,13.335 -0.603,13.335 ; -1.81,13.335 -1.81,14.605 ; -1.81,13.335 1.81,13.335 1.81,14.605 -1.81,14.605 ; -1.81,14.605 -0.603,14.605 ; -0.603,-14.605 -0.603,-13.335 ; -0.603,-14.605 -0.603,-13.335 ; -0.603,-12.065 -0.603,-10.795 ; -0.603,-12.065 -0.603,-10.795 ; -0.603,-9.525 -0.603,-8.255 ; -0.603,-9.525 -0.603,-8.255 ; -0.603,-6.985 -0.603,-5.715 ; -0.603,-6.985 -0.603,-5.715 ; -0.603,-4.445 -0.603,-3.175 ; -0.603,-4.445 -0.603,-3.175 ; -0.603,-1.905 -0.603,-0.635 ; -0.603,-1.905 -0.603,-0.635 ; -0.603,0.635 -0.603,1.905 ; -0.603,0.635 -0.603,1.905 ; -0.603,3.175 -0.603,4.445 ; -0.603,3.175 -0.603,4.445 ; -0.603,5.715 -0.603,6.985 ; -0.603,5.715 -0.603,6.985 ; -0.603,8.255 -0.603,9.525 ; -0.603,8.255 -0.603,9.525 ; -0.603,10.795 -0.603,12.065 ; -0.603,10.795 -0.603,12.065 ; -0.603,13.335 -0.603,14.605 ; -0.603,13.335 -0.603,14.605 ; -3.35,-16.02 -3.35,15.02 -2.35,16.02 3.35,16.02 3.35,-16.02 -3.35,-16.02
  text "on" at 0.233,14.926 h0.8
Top Courtyard:
  lines w0.254: -4.7,-16.33 -4.7,16.34 4.7,16.34 4.7,-16.33 -4.7,-16.33
Top Designator:
  text ".Designator" at -3.432,-0.34 h1.52
3D body "SW_DIP_SPSTx12_Slide_6.7x32.04mm_W6.73mm_P2.54mm_LowProfile_JPin.step": height 3.2, standoff -0.1, extent -3.45,-16.147 3.45,15.893

## SW_DIP_SPSTx12_Slide_6.7x32.04mm_W8.61mm_P2.54mm_LowProfile [mm] "SW_DIP_SPSTx12_Slide_6.7x32.04mm_W8.61mm_P2.54mm_LowProfile"
pads (24):
  rrect22% 2.44x1.12 smd: 1(-4.305,13.97) 2(-4.305,11.43) 3(-4.305,8.89) 4(-4.305,6.35) 5(-4.305,3.81) 6(-4.305,1.27) 7(-4.305,-1.27) 8(-4.305,-3.81) 9(-4.305,-6.35) 10(-4.305,-8.89) 11(-4.305,-11.43) 12(-4.305,-13.97) 13(4.305,-13.97) 14(4.305,-11.43) 15(4.305,-8.89) 16(4.305,-6.35) 17(4.305,-3.81) 18(4.305,-1.27) 19(4.305,1.27) 20(4.305,3.81) 21(4.305,6.35) 22(4.305,8.89) 23(4.305,11.43) 24(4.305,13.97)
F.SilkS:
  lines w0.254: -3.65,14.937 -3.65,16.32 -2.267,16.32 ; -3.41,-14.77 -3.41,-16.08 3.41,-16.08 3.41,-14.77 ; -3.41,-13.17 -3.41,-12.23 ; -3.41,-10.63 -3.41,-9.69 ; -3.41,-8.09 -3.41,-7.15 ; -3.41,-5.55 -3.41,-4.61 ; -3.41,-3.01 -3.41,-2.07 ; -3.41,-0.47 -3.41,0.47 ; -3.41,2.07 -3.41,3.01 ; -3.41,4.61 -3.41,5.55 ; -3.41,7.15 -3.41,8.09 ; -3.41,9.69 -3.41,10.63 ; -3.41,12.23 -3.41,13.17 ; -3.41,14.77 -3.41,16.08 3.41,16.08 3.41,14.77 ; 3.41,-13.17 3.41,-12.23 ; 3.41,-10.63 3.41,-9.69 ; 3.41,-8.09 3.41,-7.15 ; 3.41,-5.55 3.41,-4.61 ; 3.41,-3.01 3.41,-2.07 ; 3.41,-0.47 3.41,0.47 ; 3.41,2.07 3.41,3.01 ; 3.41,4.61 3.41,5.55 ; 3.41,7.15 3.41,8.09 ; 3.41,9.69 3.41,10.63 ; 3.41,12.23 3.41,13.17 ; -1.81,-14.605 -1.81,-13.335 ; -1.81,-14.605 -0.603,-14.605 ; -1.81,-14.605 -1.81,-13.335 ; -1.81,-14.605 1.81,-14.605 1.81,-13.335 -1.81,-13.335 ; -1.81,-13.335 -0.603,-13.335 ; -1.81,-12.065 -1.81,-10.795 ; -1.81,-12.065 -0.603,-12.065 ; -1.81,-12.065 -1.81,-10.795 ; -1.81,-12.065 1.81,-12.065 1.81,-10.795 -1.81,-10.795 ; -1.81,-10.795 -0.603,-10.795 ; -1.81,-9.525 -1.81,-8.255 ; -1.81,-9.525 -0.603,-9.525 ; -1.81,-9.525 -1.81,-8.255 ; -1.81,-9.525 1.81,-9.525 1.81,-8.255 -1.81,-8.255 ; -1.81,-8.255 -0.603,-8.255 ; -1.81,-6.985 -1.81,-5.715 ; -1.81,-6.985 -0.603,-6.985 ; -1.81,-6.985 -1.81,-5.715 ; -1.81,-6.985 1.81,-6.985 1.81,-5.715 -1.81,-5.715 ; -1.81,-5.715 -0.603,-5.715 ; -1.81,-4.445 -1.81,-3.175 ; -1.81,-4.445 -0.603,-4.445 ; -1.81,-4.445 -1.81,-3.175 ; -1.81,-4.445 1.81,-4.445 1.81,-3.175 -1.81,-3.175 ; -1.81,-3.175 -0.603,-3.175 ; -1.81,-1.905 -1.81,-0.635 ; -1.81,-1.905 -0.603,-1.905 ; -1.81,-1.905 -1.81,-0.635 ; -1.81,-1.905 1.81,-1.905 1.81,-0.635 -1.81,-0.635 ; -1.81,-0.635 -0.603,-0.635 ; -1.81,0.635 -1.81,1.905 ; -1.81,0.635 -0.603,0.635 ; -1.81,0.635 -1.81,1.905 ; -1.81,0.635 1.81,0.635 1.81,1.905 -1.81,1.905 ; -1.81,1.905 -0.603,1.905 ; -1.81,3.175 -1.81,4.445 ; -1.81,3.175 -0.603,3.175 ; -1.81,3.175 -1.81,4.445 ; -1.81,3.175 1.81,3.175 1.81,4.445 -1.81,4.445 ; -1.81,4.445 -0.603,4.445 ; -1.81,5.715 -1.81,6.985 ; -1.81,5.715 -0.603,5.715 ; -1.81,5.715 -1.81,6.985 ; -1.81,5.715 1.81,5.715 1.81,6.985 -1.81,6.985 ; -1.81,6.985 -0.603,6.985 ; -1.81,8.255 -1.81,9.525 ; -1.81,8.255 -0.603,8.255 ; -1.81,8.255 -1.81,9.525 ; -1.81,8.255 1.81,8.255 1.81,9.525 -1.81,9.525 ; -1.81,9.525 -0.603,9.525 ; -1.81,10.795 -1.81,12.065 ; -1.81,10.795 -0.603,10.795 ; -1.81,10.795 -1.81,12.065 ; -1.81,10.795 1.81,10.795 1.81,12.065 -1.81,12.065 ; -1.81,12.065 -0.603,12.065 ; -1.81,13.335 -1.81,14.605 ; -1.81,13.335 -0.603,13.335 ; -1.81,13.335 -1.81,14.605 ; -1.81,13.335 1.81,13.335 1.81,14.605 -1.81,14.605 ; -1.81,14.605 -0.603,14.605 ; -0.603,-14.605 -0.603,-13.335 ; -0.603,-14.605 -0.603,-13.335 ; -0.603,-12.065 -0.603,-10.795 ; -0.603,-12.065 -0.603,-10.795 ; -0.603,-9.525 -0.603,-8.255 ; -0.603,-9.525 -0.603,-8.255 ; -0.603,-6.985 -0.603,-5.715 ; -0.603,-6.985 -0.603,-5.715 ; -0.603,-4.445 -0.603,-3.175 ; -0.603,-4.445 -0.603,-3.175 ; -0.603,-1.905 -0.603,-0.635 ; -0.603,-1.905 -0.603,-0.635 ; -0.603,0.635 -0.603,1.905 ; -0.603,0.635 -0.603,1.905 ; -0.603,3.175 -0.603,4.445 ; -0.603,3.175 -0.603,4.445 ; -0.603,5.715 -0.603,6.985 ; -0.603,5.715 -0.603,6.985 ; -0.603,8.255 -0.603,9.525 ; -0.603,8.255 -0.603,9.525 ; -0.603,10.795 -0.603,12.065 ; -0.603,10.795 -0.603,12.065 ; -0.603,13.335 -0.603,14.605 ; -0.603,13.335 -0.603,14.605
Top Component Center:
  lines w0.127: -0.127,0 0.127,0 ; 0,-0.127 0,0.127
Top Assembly:
  lines w0.254: -1.81,-14.605 -1.81,-13.335 ; -1.81,-14.605 -0.603,-14.605 ; -1.81,-14.605 -1.81,-13.335 ; -1.81,-14.605 1.81,-14.605 1.81,-13.335 -1.81,-13.335 ; -1.81,-13.335 -0.603,-13.335 ; -1.81,-12.065 -1.81,-10.795 ; -1.81,-12.065 -0.603,-12.065 ; -1.81,-12.065 -1.81,-10.795 ; -1.81,-12.065 1.81,-12.065 1.81,-10.795 -1.81,-10.795 ; -1.81,-10.795 -0.603,-10.795 ; -1.81,-9.525 -1.81,-8.255 ; -1.81,-9.525 -0.603,-9.525 ; -1.81,-9.525 -1.81,-8.255 ; -1.81,-9.525 1.81,-9.525 1.81,-8.255 -1.81,-8.255 ; -1.81,-8.255 -0.603,-8.255 ; -1.81,-6.985 -1.81,-5.715 ; -1.81,-6.985 -0.603,-6.985 ; -1.81,-6.985 -1.81,-5.715 ; -1.81,-6.985 1.81,-6.985 1.81,-5.715 -1.81,-5.715 ; -1.81,-5.715 -0.603,-5.715 ; -1.81,-4.445 -1.81,-3.175 ; -1.81,-4.445 -0.603,-4.445 ; -1.81,-4.445 -1.81,-3.175 ; -1.81,-4.445 1.81,-4.445 1.81,-3.175 -1.81,-3.175 ; -1.81,-3.175 -0.603,-3.175 ; -1.81,-1.905 -1.81,-0.635 ; -1.81,-1.905 -0.603,-1.905 ; -1.81,-1.905 -1.81,-0.635 ; -1.81,-1.905 1.81,-1.905 1.81,-0.635 -1.81,-0.635 ; -1.81,-0.635 -0.603,-0.635 ; -1.81,0.635 -1.81,1.905 ; -1.81,0.635 -0.603,0.635 ; -1.81,0.635 -1.81,1.905 ; -1.81,0.635 1.81,0.635 1.81,1.905 -1.81,1.905 ; -1.81,1.905 -0.603,1.905 ; -1.81,3.175 -1.81,4.445 ; -1.81,3.175 -0.603,3.175 ; -1.81,3.175 -1.81,4.445 ; -1.81,3.175 1.81,3.175 1.81,4.445 -1.81,4.445 ; -1.81,4.445 -0.603,4.445 ; -1.81,5.715 -1.81,6.985 ; -1.81,5.715 -0.603,5.715 ; -1.81,5.715 -1.81,6.985 ; -1.81,5.715 1.81,5.715 1.81,6.985 -1.81,6.985 ; -1.81,6.985 -0.603,6.985 ; -1.81,8.255 -1.81,9.525 ; -1.81,8.255 -0.603,8.255 ; -1.81,8.255 -1.81,9.525 ; -1.81,8.255 1.81,8.255 1.81,9.525 -1.81,9.525 ; -1.81,9.525 -0.603,9.525 ; -1.81,10.795 -1.81,12.065 ; -1.81,10.795 -0.603,10.795 ; -1.81,10.795 -1.81,12.065 ; -1.81,10.795 1.81,10.795 1.81,12.065 -1.81,12.065 ; -1.81,12.065 -0.603,12.065 ; -1.81,13.335 -1.81,14.605 ; -1.81,13.335 -0.603,13.335 ; -1.81,13.335 -1.81,14.605 ; -1.81,13.335 1.81,13.335 1.81,14.605 -1.81,14.605 ; -1.81,14.605 -0.603,14.605 ; -0.603,-14.605 -0.603,-13.335 ; -0.603,-14.605 -0.603,-13.335 ; -0.603,-12.065 -0.603,-10.795 ; -0.603,-12.065 -0.603,-10.795 ; -0.603,-9.525 -0.603,-8.255 ; -0.603,-9.525 -0.603,-8.255 ; -0.603,-6.985 -0.603,-5.715 ; -0.603,-6.985 -0.603,-5.715 ; -0.603,-4.445 -0.603,-3.175 ; -0.603,-4.445 -0.603,-3.175 ; -0.603,-1.905 -0.603,-0.635 ; -0.603,-1.905 -0.603,-0.635 ; -0.603,0.635 -0.603,1.905 ; -0.603,0.635 -0.603,1.905 ; -0.603,3.175 -0.603,4.445 ; -0.603,3.175 -0.603,4.445 ; -0.603,5.715 -0.603,6.985 ; -0.603,5.715 -0.603,6.985 ; -0.603,8.255 -0.603,9.525 ; -0.603,8.255 -0.603,9.525 ; -0.603,10.795 -0.603,12.065 ; -0.603,10.795 -0.603,12.065 ; -0.603,13.335 -0.603,14.605 ; -0.603,13.335 -0.603,14.605 ; -3.35,-16.02 -3.35,15.02 -2.35,16.02 3.35,16.02 3.35,-16.02 -3.35,-16.02
  text "on" at -0.237,14.926 h0.8
Top Courtyard:
  lines w0.254: -5.78,-16.33 -5.78,16.34 5.78,16.34 5.78,-16.33 -5.78,-16.33
Top Designator:
  text ".Designator" at -3.432,-0.34 h1.52
3D body "SW_DIP_SPSTx12_Slide_6.7x32.04mm_W8.61mm_P2.54mm_LowProfile.step": height 2.7, standoff 0, extent -4.305,-16.147 4.305,15.893

## SW_DIP_SPSTx12_Slide_9.78x32.66mm_W8.61mm_P2.54mm [mm] "SW_DIP_SPSTx12_Slide_9.78x32.66mm_W8.61mm_P2.54mm"
pads (24):
  rrect22% 2.44x1.12 smd: 1(-4.305,13.97) 2(-4.305,11.43) 3(-4.305,8.89) 4(-4.305,6.35) 5(-4.305,3.81) 6(-4.305,1.27) 7(-4.305,-1.27) 8(-4.305,-3.81) 9(-4.305,-6.35) 10(-4.305,-8.89) 11(-4.305,-11.43) 12(-4.305,-13.97) 13(4.305,-13.97) 14(4.305,-11.43) 15(4.305,-8.89) 16(4.305,-6.35) 17(4.305,-3.81) 18(4.305,-1.27) 19(4.305,1.27) 20(4.305,3.81) 21(4.305,6.35) 22(4.305,8.89) 23(4.305,11.43) 24(4.305,13.97)
F.SilkS:
  lines w0.254: -5.19,15.247 -5.19,16.63 -3.807,16.63 ; -4.95,-14.77 -4.95,-16.39 4.95,-16.39 4.95,-14.77 ; -4.95,-13.17 -4.95,-12.23 ; -4.95,-10.63 -4.95,-9.69 ; -4.95,-8.09 -4.95,-7.15 ; -4.95,-5.55 -4.95,-4.61 ; -4.95,-3.01 -4.95,-2.07 ; -4.95,-0.47 -4.95,0.47 ; -4.95,2.07 -4.95,3.01 ; -4.95,4.61 -4.95,5.55 ; -4.95,7.15 -4.95,8.09 ; -4.95,9.69 -4.95,10.63 ; -4.95,12.23 -4.95,13.17 ; -4.95,14.77 -4.95,16.39 4.95,16.39 4.95,14.77 ; 4.95,-13.17 4.95,-12.23 ; 4.95,-10.63 4.95,-9.69 ; 4.95,-8.09 4.95,-7.15 ; 4.95,-5.55 4.95,-4.61 ; 4.95,-3.01 4.95,-2.07 ; 4.95,-0.47 4.95,0.47 ; 4.95,2.07 4.95,3.01 ; 4.95,4.61 4.95,5.55 ; 4.95,7.15 4.95,8.09 ; 4.95,9.69 4.95,10.63 ; 4.95,12.23 4.95,13.17 ; -2.03,-14.605 2.03,-14.605 2.03,-13.335 -2.03,-13.335 ; -2.03,-14.605 -2.03,-13.335 ; -2.03,-14.605 -0.677,-14.605 ; -2.03,-14.605 -2.03,-13.335 ; -2.03,-13.335 -0.677,-13.335 ; -2.03,-12.065 2.03,-12.065 2.03,-10.795 -2.03,-10.795 ; -2.03,-12.065 -2.03,-10.795 ; -2.03,-12.065 -0.677,-12.065 ; -2.03,-12.065 -2.03,-10.795 ; -2.03,-10.795 -0.677,-10.795 ; -2.03,-9.525 2.03,-9.525 2.03,-8.255 -2.03,-8.255 ; -2.03,-9.525 -2.03,-8.255 ; -2.03,-9.525 -0.677,-9.525 ; -2.03,-9.525 -2.03,-8.255 ; -2.03,-8.255 -0.677,-8.255 ; -2.03,-6.985 2.03,-6.985 2.03,-5.715 -2.03,-5.715 ; -2.03,-6.985 -2.03,-5.715 ; -2.03,-6.985 -0.677,-6.985 ; -2.03,-6.985 -2.03,-5.715 ; -2.03,-5.715 -0.677,-5.715 ; -2.03,-4.445 2.03,-4.445 2.03,-3.175 -2.03,-3.175 ; -2.03,-4.445 -2.03,-3.175 ; -2.03,-4.445 -0.677,-4.445 ; -2.03,-4.445 -2.03,-3.175 ; -2.03,-3.175 -0.677,-3.175 ; -2.03,-1.905 2.03,-1.905 2.03,-0.635 -2.03,-0.635 ; -2.03,-1.905 -2.03,-0.635 ; -2.03,-1.905 -0.677,-1.905 ; -2.03,-1.905 -2.03,-0.635 ; -2.03,-0.635 -0.677,-0.635 ; -2.03,0.635 2.03,0.635 2.03,1.905 -2.03,1.905 ; -2.03,0.635 -2.03,1.905 ; -2.03,0.635 -0.677,0.635 ; -2.03,0.635 -2.03,1.905 ; -2.03,1.905 -0.677,1.905 ; -2.03,3.175 2.03,3.175 2.03,4.445 -2.03,4.445 ; -2.03,3.175 -2.03,4.445 ; -2.03,3.175 -0.677,3.175 ; -2.03,3.175 -2.03,4.445 ; -2.03,4.445 -0.677,4.445 ; -2.03,5.715 2.03,5.715 2.03,6.985 -2.03,6.985 ; -2.03,5.715 -2.03,6.985 ; -2.03,5.715 -0.677,5.715 ; -2.03,5.715 -2.03,6.985 ; -2.03,6.985 -0.677,6.985 ; -2.03,8.255 2.03,8.255 2.03,9.525 -2.03,9.525 ; -2.03,8.255 -2.03,9.525 ; -2.03,8.255 -0.677,8.255 ; -2.03,8.255 -2.03,9.525 ; -2.03,9.525 -0.677,9.525 ; -2.03,10.795 2.03,10.795 2.03,12.065 -2.03,12.065 ; -2.03,10.795 -2.03,12.065 ; -2.03,10.795 -0.677,10.795 ; -2.03,10.795 -2.03,12.065 ; -2.03,12.065 -0.677,12.065 ; -2.03,13.335 2.03,13.335 2.03,14.605 -2.03,14.605 ; -2.03,13.335 -2.03,14.605 ; -2.03,13.335 -0.677,13.335 ; -2.03,13.335 -2.03,14.605 ; -2.03,14.605 -0.677,14.605 ; -0.677,-14.605 -0.677,-13.335 ; -0.677,-14.605 -0.677,-13.335 ; -0.677,-12.065 -0.677,-10.795 ; -0.677,-12.065 -0.677,-10.795 ; -0.677,-9.525 -0.677,-8.255 ; -0.677,-9.525 -0.677,-8.255 ; -0.677,-6.985 -0.677,-5.715 ; -0.677,-6.985 -0.677,-5.715 ; -0.677,-4.445 -0.677,-3.175 ; -0.677,-4.445 -0.677,-3.175 ; -0.677,-1.905 -0.677,-0.635 ; -0.677,-1.905 -0.677,-0.635 ; -0.677,0.635 -0.677,1.905 ; -0.677,0.635 -0.677,1.905 ; -0.677,3.175 -0.677,4.445 ; -0.677,3.175 -0.677,4.445 ; -0.677,5.715 -0.677,6.985 ; -0.677,5.715 -0.677,6.985 ; -0.677,8.255 -0.677,9.525 ; -0.677,8.255 -0.677,9.525 ; -0.677,10.795 -0.677,12.065 ; -0.677,10.795 -0.677,12.065 ; -0.677,13.335 -0.677,14.605 ; -0.677,13.335 -0.677,14.605
Top Component Center:
  lines w0.127: -0.127,0 0.127,0 ; 0,-0.127 0,0.127
Top Assembly:
  lines w0.254: -2.03,-14.605 2.03,-14.605 2.03,-13.335 -2.03,-13.335 ; -2.03,-14.605 -2.03,-13.335 ; -2.03,-14.605 -0.677,-14.605 ; -2.03,-14.605 -2.03,-13.335 ; -2.03,-13.335 -0.677,-13.335 ; -2.03,-12.065 2.03,-12.065 2.03,-10.795 -2.03,-10.795 ; -2.03,-12.065 -2.03,-10.795 ; -2.03,-12.065 -0.677,-12.065 ; -2.03,-12.065 -2.03,-10.795 ; -2.03,-10.795 -0.677,-10.795 ; -2.03,-9.525 2.03,-9.525 2.03,-8.255 -2.03,-8.255 ; -2.03,-9.525 -2.03,-8.255 ; -2.03,-9.525 -0.677,-9.525 ; -2.03,-9.525 -2.03,-8.255 ; -2.03,-8.255 -0.677,-8.255 ; -2.03,-6.985 2.03,-6.985 2.03,-5.715 -2.03,-5.715 ; -2.03,-6.985 -2.03,-5.715 ; -2.03,-6.985 -0.677,-6.985 ; -2.03,-6.985 -2.03,-5.715 ; -2.03,-5.715 -0.677,-5.715 ; -2.03,-4.445 2.03,-4.445 2.03,-3.175 -2.03,-3.175 ; -2.03,-4.445 -2.03,-3.175 ; -2.03,-4.445 -0.677,-4.445 ; -2.03,-4.445 -2.03,-3.175 ; -2.03,-3.175 -0.677,-3.175 ; -2.03,-1.905 2.03,-1.905 2.03,-0.635 -2.03,-0.635 ; -2.03,-1.905 -2.03,-0.635 ; -2.03,-1.905 -0.677,-1.905 ; -2.03,-1.905 -2.03,-0.635 ; -2.03,-0.635 -0.677,-0.635 ; -2.03,0.635 2.03,0.635 2.03,1.905 -2.03,1.905 ; -2.03,0.635 -2.03,1.905 ; -2.03,0.635 -0.677,0.635 ; -2.03,0.635 -2.03,1.905 ; -2.03,1.905 -0.677,1.905 ; -2.03,3.175 2.03,3.175 2.03,4.445 -2.03,4.445 ; -2.03,3.175 -2.03,4.445 ; -2.03,3.175 -0.677,3.175 ; -2.03,3.175 -2.03,4.445 ; -2.03,4.445 -0.677,4.445 ; -2.03,5.715 2.03,5.715 2.03,6.985 -2.03,6.985 ; -2.03,5.715 -2.03,6.985 ; -2.03,5.715 -0.677,5.715 ; -2.03,5.715 -2.03,6.985 ; -2.03,6.985 -0.677,6.985 ; -2.03,8.255 2.03,8.255 2.03,9.525 -2.03,9.525 ; -2.03,8.255 -2.03,9.525 ; -2.03,8.255 -0.677,8.255 ; -2.03,8.255 -2.03,9.525 ; -2.03,9.525 -0.677,9.525 ; -2.03,10.795 2.03,10.795 2.03,12.065 -2.03,12.065 ; -2.03,10.795 -2.03,12.065 ; -2.03,10.795 -0.677,10.795 ; -2.03,10.795 -2.03,12.065 ; -2.03,12.065 -0.677,12.065 ; -2.03,13.335 2.03,13.335 2.03,14.605 -2.03,14.605 ; -2.03,13.335 -2.03,14.605 ; -2.03,13.335 -0.677,13.335 ; -2.03,13.335 -2.03,14.605 ; -2.03,14.605 -0.677,14.605 ; -0.677,-14.605 -0.677,-13.335 ; -0.677,-14.605 -0.677,-13.335 ; -0.677,-12.065 -0.677,-10.795 ; -0.677,-12.065 -0.677,-10.795 ; -0.677,-9.525 -0.677,-8.255 ; -0.677,-9.525 -0.677,-8.255 ; -0.677,-6.985 -0.677,-5.715 ; -0.677,-6.985 -0.677,-5.715 ; -0.677,-4.445 -0.677,-3.175 ; -0.677,-4.445 -0.677,-3.175 ; -0.677,-1.905 -0.677,-0.635 ; -0.677,-1.905 -0.677,-0.635 ; -0.677,0.635 -0.677,1.905 ; -0.677,0.635 -0.677,1.905 ; -0.677,3.175 -0.677,4.445 ; -0.677,3.175 -0.677,4.445 ; -0.677,5.715 -0.677,6.985 ; -0.677,5.715 -0.677,6.985 ; -0.677,8.255 -0.677,9.525 ; -0.677,8.255 -0.677,9.525 ; -0.677,10.795 -0.677,12.065 ; -0.677,10.795 -0.677,12.065 ; -0.677,13.335 -0.677,14.605 ; -0.677,13.335 -0.677,14.605 ; -4.89,-16.33 4.89,-16.33 4.89,16.33 -3.89,16.33 -4.89,15.33 -4.89,-16.33
  text "on" at 0.643,15.081 h0.8
Top Courtyard:
  lines w0.254: -5.78,-16.64 5.78,-16.64 5.78,16.64 -5.78,16.64 -5.78,-16.64
Top Designator:
  text ".Designator" at -3.432,-0.345 h1.52
3D body "SW_DIP_SPSTx12_Slide_9.78x32.66mm_W8.61mm_P2.54mm.step": height 8.6, standoff 0, extent -5.2,-16.33 5.2,16.33

## SW_DPDT_CK_JS202011JCQN [mm] "SW_DPDT_CK_JS202011JCQN"
pads (6):
  rect 1x1.6 smd: 1(-2.5,1.2) 2(0,1.2) 3(2.5,1.2) 4(-2.5,-1.2) 5(0,-1.2) 6(2.5,-1.2)
F.SilkS:
  lines w0.254: -3.26,-1.91 -4.61,-1.91 -4.61,1.91 -3.26,1.91 ; -1.74,-1.91 -0.76,-1.91 ; -1.74,1.91 -0.76,1.91 ; 0.76,-1.91 1.74,-1.91 ; 0.76,1.91 1.74,1.91 ; 3.26,-1.91 4.61,-1.91 4.61,1.91 3.26,1.91
Top Component Center:
  lines w0.127: -0.127,0 0.127,0 ; 0,-0.127 0,0.127
Top Assembly:
  lines w0.254: -0.25,-0.75 -0.25,0.75 ; -4.5,-1.8 4.5,-1.8 4.5,1.8 -4.5,1.8 -4.5,-1.8 ; -1.75,-0.75 1.75,-0.75 1.75,0.75 -1.75,0.75 -1.75,-0.75
Top Courtyard:
  lines w0.254: -4.75,-2.25 4.75,-2.25 4.75,2.25 -4.75,2.25 -4.75,-2.25
Top Designator:
  text ".Designator" at -3.432,-0.345 h1.52

## SW_MEC_5GSH9 [mm] "SW_MEC_5GSH9"
pads (4):
  rect 1.2x2.5 smd: 1(-3.81,6.25) 2(-3.81,-6.25) 3(3.81,6.25) 4(3.81,-6.25)
F.SilkS:
  lines w0.254: -5.25,-4 -5.25,-5.25 -4.7,-5.25 ; -5.25,0 -5.25,5.25 -4.7,5.25 ; 4.7,-5.25 5.25,-5.25 5.25,-4 ; 4.7,5.25 5.25,5.25 5.25,4
Top Component Center:
  lines w0.127: -0.127,0 0.127,0 ; 0,-0.127 0,0.127
Top Assembly:
  circle w0.254: c-3.85,4.3 r0.4
  lines w0.254: -5,-5 5,-5 5,5 -5,5 -5,-5
Top Courtyard:
  lines w0.254: -5.3,-7.8 5.3,-7.8 5.3,7.8 -5.3,7.8 -5.3,-7.8
Top Designator:
  text ".Designator" at -3.432,-0.345 h1.52

## SW_Push_1P1T-MP_NO_Horizontal_Alps_SKRTLAE010 [mm] "SW_Push_1P1T-MP_NO_Horizontal_Alps_SKRTLAE010"
pads (7):
  rrect25% 0.75x1.8 smd: 1(-1.225,0.9) 1(1.225,0.9)
  rrect25% 0.6x1.8 smd: 2(0,0.9)
  rrect25% 1.3x0.9 smd: MP(-1.85,-1.05) MP(1.85,-1.05)
  round 0.9 hole 0.9: Un1(-2.125,0) Un2(2.125,0)
F.SilkS:
  lines w0.254: -2.4,0.5 -2.4,1.5 -1.8,1.5 ; -1,-1.3 1,-1.3 ; 1.8,1.5 2.4,1.5 2.4,0.5
Top Component Center:
  lines w0.127: -0.127,0 0.127,0 ; 0,-0.127 0,0.127
Top Assembly:
  lines w0.254: -1,-1.21 -1,-2.04 1,-2.04 1,-1.21 ; -2.25,-1.21 -2.25,1.35 2.25,1.35 2.25,-1.21 -2.25,-1.21
Top Courtyard:
  lines w0.254: -2.83,-2.3 -2.83,2.05 2.83,2.05 2.83,-2.3 -2.83,-2.3
Top Designator:
  text ".Designator" at -3.432,-0.345 h1.52
Dwgs.User:
  lines w0.254: -0.5,-1.5 0,-0.3 ; -0.5,-0.3 -1,-1.5 ; 0,-1.5 0.5,-0.3 ; 0.5,-1.5 1,-0.3 ; -1,-1.5 -1,-0.3 1,-0.3 ; -1,-1.5 1,-1.5 1,-0.3

## SW_Push_1P1T-SH_NO_CK_KMR2xxG [mm] "SW_Push_1P1T-SH_NO_CK_KMR2xxG"
pads (5):
  rect 0.9x1 smd: 1(-2.05,0.8) 1(2.05,0.8) 2(-2.05,-0.8) 2(2.05,-0.8)
  rect 1.7x0.55 smd: SH(0,1.425)
F.SilkS:
  lines w0.254: -2.2,-1.55 2.2,-1.55 ; -2.2,-0.05 -2.2,0.05 ; -2.2,1.55 -1.15,1.55 ; 1.15,1.55 2.2,1.55 ; 2.2,-0.05 2.2,0.05
Top Component Center:
  lines w0.127: -0.127,0 0.127,0 ; 0,-0.127 0,0.127
Top Assembly:
  circle w0.254: c0,0 r0.8
  lines w0.254: -2.1,-1.4 -2.1,1.4 2.1,1.4 2.1,-1.4 -2.1,-1.4
Top Courtyard:
  lines w0.254: -2.8,-1.8 -2.8,1.8 2.8,1.8 2.8,-1.8 -2.8,-1.8
Top Designator:
  text ".Designator" at -3.432,-0.345 h1.52

## SW_Push_1P1T_NO_CK_KMR2 [mm] "SW_Push_1P1T_NO_CK_KMR2"
pads (4):
  rect 0.9x1 smd: 1(-2.05,0.8) 1(2.05,0.8) 2(-2.05,-0.8) 2(2.05,-0.8)
F.SilkS:
  lines w0.254: -2.2,-1.55 2.2,-1.55 ; -2.2,-0.05 -2.2,0.05 ; -2.2,1.55 2.2,1.55 ; 2.2,-0.05 2.2,0.05
Top Component Center:
  lines w0.127: -0.127,0 0.127,0 ; 0,-0.127 0,0.127
Top Assembly:
  circle w0.254: c0,0 r0.8
  lines w0.254: -2.1,-1.4 -2.1,1.4 2.1,1.4 2.1,-1.4 -2.1,-1.4
Top Courtyard:
  lines w0.254: -2.8,-1.8 -2.8,1.8 2.8,1.8 2.8,-1.8 -2.8,-1.8
Top Designator:
  text ".Designator" at -2.253,-0.226 h1

## SW_Push_1P1T_NO_CK_KSC6xxJ [mm] "SW_Push_1P1T_NO_CK_KSC6xxJ"
pads (4):
  rect 2.8x1 smd: 1(-2.9,2) 1(2.9,2) 2(-2.9,-2) 2(2.9,-2)
F.SilkS:
  lines w0.254: -3.21,-2.8 -3.21,-3.21 3.21,-3.21 3.21,-2.93 ; -3.21,-1.2 -3.21,1.2 ; -3.21,2.8 -3.21,3.21 3.21,3.21 3.21,2.8 ; 3.21,-1.2 3.21,1.2
Top Component Center:
  lines w0.127: -0.127,0 0.127,0 ; 0,-0.127 0,0.127
Top Assembly:
  circle w0.254: c0,0 r1.45
  lines w0.254: -3.1,-3.1 -3.1,3.1 3.1,3.1 3.1,-3.1 -3.1,-3.1
Top Courtyard:
  lines w0.254: -4.55,-3.35 -4.55,3.35 4.55,3.35 4.55,-3.35 -4.55,-3.35
Top Designator:
  text ".Designator" at -3.432,-0.345 h1.52

## SW_Push_1P1T_NO_CK_KSC7xxJ [mm] "SW_Push_1P1T_NO_CK_KSC7xxJ"
pads (4):
  rrect25% 2.8x1 smd: 1(-2.9,2) 1(2.9,2) 2(-2.9,-2) 2(2.9,-2)
F.SilkS:
  lines w0.254: -3.21,-2.8 -3.21,-3.21 3.21,-3.21 3.21,-2.93 ; -3.21,-1.2 -3.21,1.2 ; -3.21,2.8 -3.21,3.21 3.21,3.21 3.21,2.8 ; 3.21,-1.2 3.21,1.2
Top Component Center:
  lines w0.127: -0.127,0 0.127,0 ; 0,-0.127 0,0.127
Top Assembly:
  circle w0.254: c0,0 r1.5
  lines w0.254: -3.1,-3.1 3.1,-3.1 3.1,3.1 -3.1,3.1 -3.1,-3.1
Top Courtyard:
  lines w0.254: -4.55,-3.35 4.55,-3.35 4.55,3.35 -4.55,3.35 -4.55,-3.35
Top Designator:
  text ".Designator" at -3.432,-0.345 h1.52

## SW_Push_1P1T_NO_CK_KSC9xxG [mm] "SW_Push_1P1T_NO_CK_KSC9xxG"
pads (4):
  rrect25% 3.1x1 smd: 1(-4.45,2) 1(4.45,2) 2(-4.45,-2) 2(4.45,-2)
F.SilkS:
  lines w0.254: -3.21,-2.8 -3.21,-3.21 3.21,-3.21 3.21,-2.93 ; -3.21,-1.2 -3.21,1.2 ; -3.21,2.8 -3.21,3.21 3.21,3.21 3.21,2.8 ; 3.21,-1.2 3.21,1.2
Top Component Center:
  lines w0.127: -0.127,0 0.127,0 ; 0,-0.127 0,0.127
Top Assembly:
  circle w0.254: c0,0 r1.475
  lines w0.254: -3.1,-3.1 3.1,-3.1 3.1,3.1 -3.1,3.1 -3.1,-3.1
Top Courtyard:
  lines w0.254: -6.25,-3.35 6.25,-3.35 6.25,3.35 -6.25,3.35 -6.25,-3.35
Top Designator:
  text ".Designator" at -3.432,-0.345 h1.52